# Altium integrated library AVR.IntLib: 157 symbols (part 3 of 3)
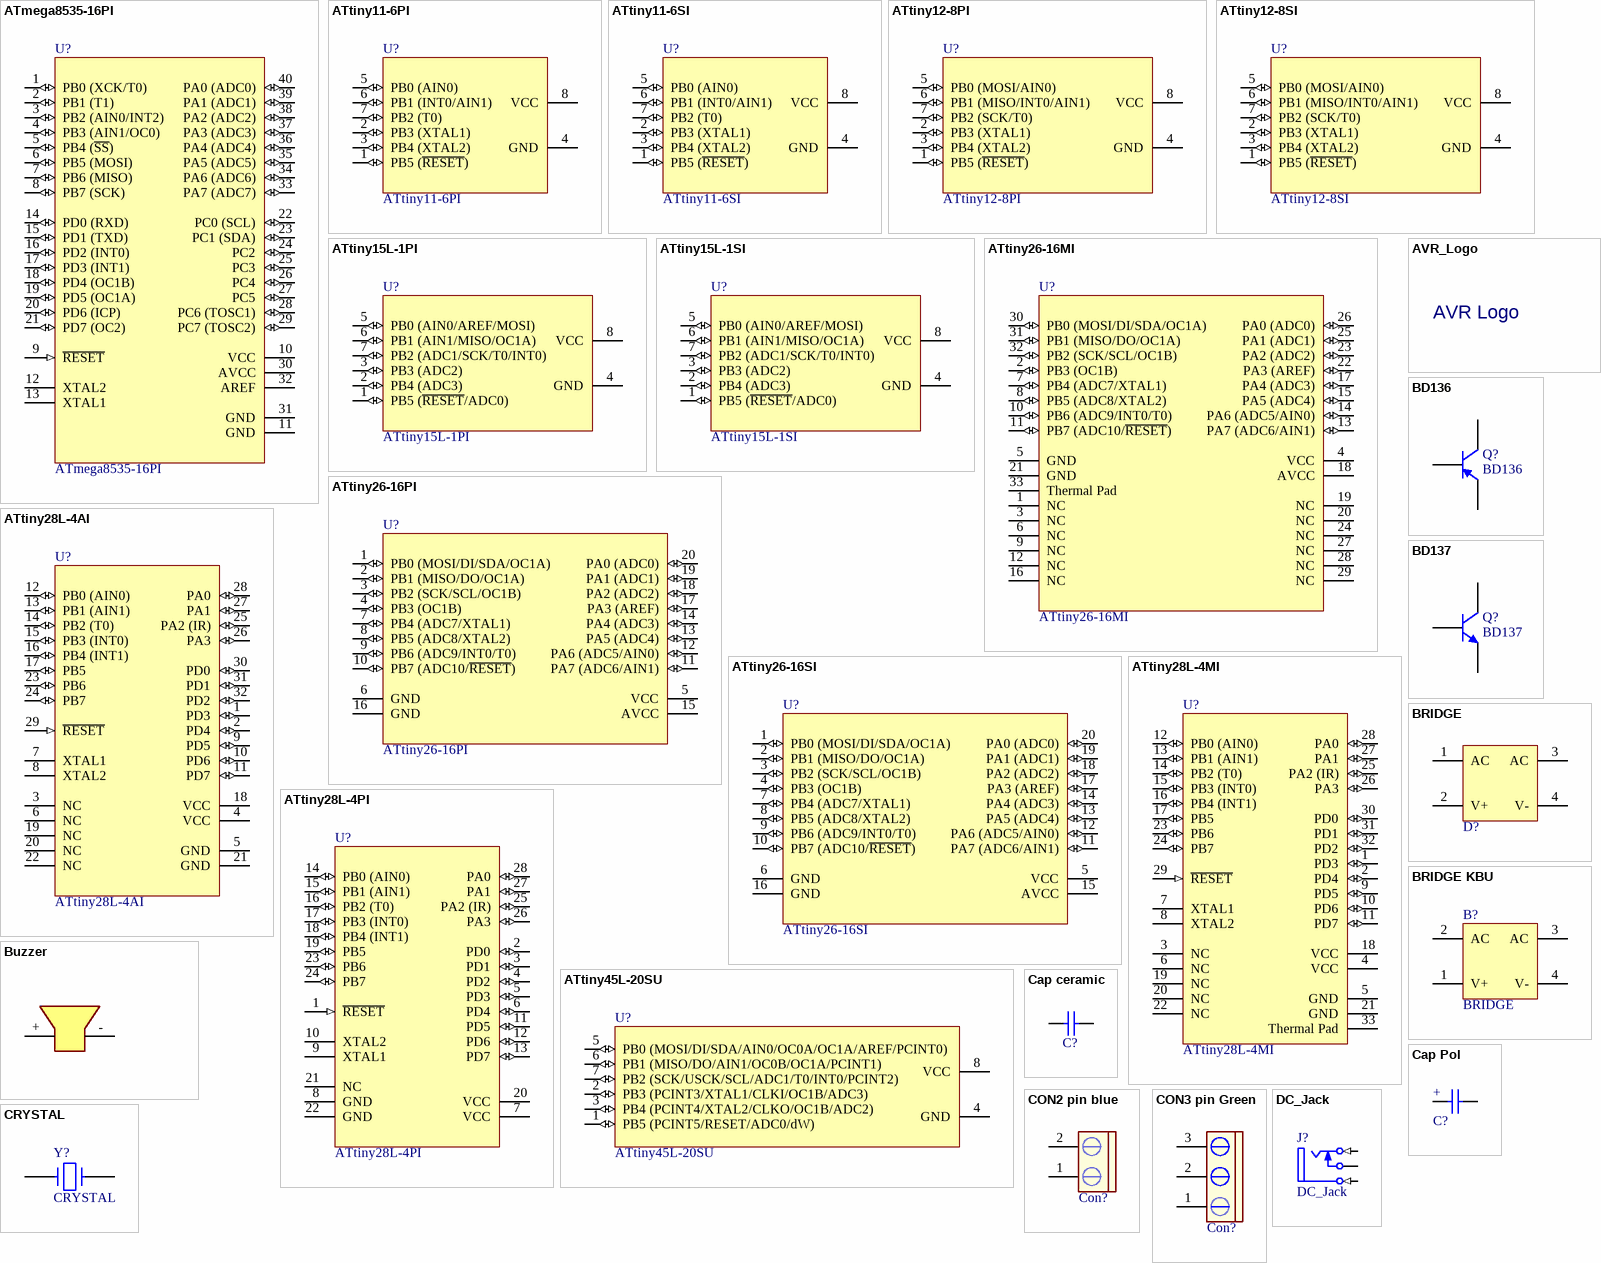
[diagram p11: symbols ATmega8535-16PI to DC_Jack]

## ATtiny45L-20SU
designator U?
AVR 4K Bytes of In-System Programmable Flash Memory; Published: 17-Sep-2003; LatestRevisionDate: 13-Apr-2006; LatestRevisionNote: IPC-7351 Footprint Added.; DatasheetVersion: 1187E-AVR-06/02; PackageVersion: revB, May-2002; PackageReference: 8S2; Publisher: Altium Limited; PackageDescription: 8-Pin Small Outline Package 1.27 mm Pitch; ComponentLink1Description: Manufacturer Link; ComponentLink1URL: http://www.atmel.com; ComponentLink2Description: Datasheet; ComponentLink2URL: http://www.atmel.com/dyn/resources/prod_documents/doc1187.pdf
footprint My_SOIC_P8 (SOIC, 8-Leads, Body 5.3x5.2mm (max), Pitch 1.27mm, IPC Medium Density)
3D model 8S2 (PCB3D Model)
pins: 1 PB5 (PCINT5/RESET/ADC0/dW)  (io), 2 PB3 (PCINT3/XTAL1/CLKI/OC1B/ADC3)  (io), 3 PB4 (PCINT4/XTAL2/CLKO/OC1B/ADC2)  (io), 4 GND (power), 5 PB0 (MOSI/DI/SDA/AIN0/OC0A/OC1A/AREF/PCINT0) (io), 6 PB1 (MISO/DO/AIN1/OC0B/OC1A/PCINT1) (io), 7 PB2 (SCK/USCK/SCL/ADC1/T0/INT0/PCINT2) (io), 8 VCC (power)

## AVR_Logo
designator U?, comment AVR logo
footprint MY_AVR_Logo_0
footprint MY_AVR_Logo_1
footprint MY_AVR_Logo_2
footprint MY_AVR_Logo_3
footprint MY_AVR_Logo_4
footprint MY_AVR_Logo_5
text: AVR Logo

## BD136
designator Q?
Darlington transistor
footprint My_TO126
pins: B, C, E

## BD137
designator Q?
Darlington transistor
footprint My_TO126
pins: B, C, E

## BRIDGE
designator D?  (value not drawn)
Diode Bridge 1 Amp
footprint My_bridg
pins: 1 AC, 2 V+, 3 AC, 4 V-

## BRIDGE KBU
designator B?, comment BRIDGE
BRIDGE KBU 6 Amp
footprint My_KBU
pins: 1 V+ (power), 2 AC, 3 AC, 4 V- (power)

## Buzzer
designator U?, comment Buzzer small
5-12v small buzzer (12mm)
footprint My_Buzzer
pins: + 1 (power), - 2 (power)

## Cap ceramic
designator C?, comment Cap  (value not drawn)
CAP-100Nf; Value: 100nF
footprint My_cap100n
pins: 1, 2

## Cap Pol
designator C?, comment Cap  (value not drawn)
CAP-3300Uf; Value: 3300u
footprint My_cap3300u
footprint MY_Cap1000u
pins: +, -

## CON2 pin blue
designator Con?  (value not drawn)
Connector blue screw
footprint My_CN2
pins: 1, 2

## CON3 pin Green
designator Con?  (value not drawn)
Connector green screw
footprint My_CN3
pins: 1, 2, 3

## CRYSTAL
designator Y?
footprint My_Crystal
pins: 1, 2

## DC_Jack
designator J?
PackageDocument: 2003; PCB_Layout: Complies with manufacturer's recommendation.; DrillAndSlotSize: Corresponds to nominal value.; LatestRevisionDate: 15-Jul-2004; LatestRevisionNote: Component Replaced & renamed from "Phonejack".; DatasheetDocument: 2003; PackageReference: S1VS_SNB; Publisher: Altium Limited; ComponentLink1Description: Manufacturer Link; ComponentLink1URL: http://www.cliffuk.co.uk/
footprint My_DC_Jack
signal-integrity model JACK Socket
pins: 1 T (in) "Tip", 2 TN "Tip Normal (Break Contact)", 3 S (in) "Sleeve (Ground)"

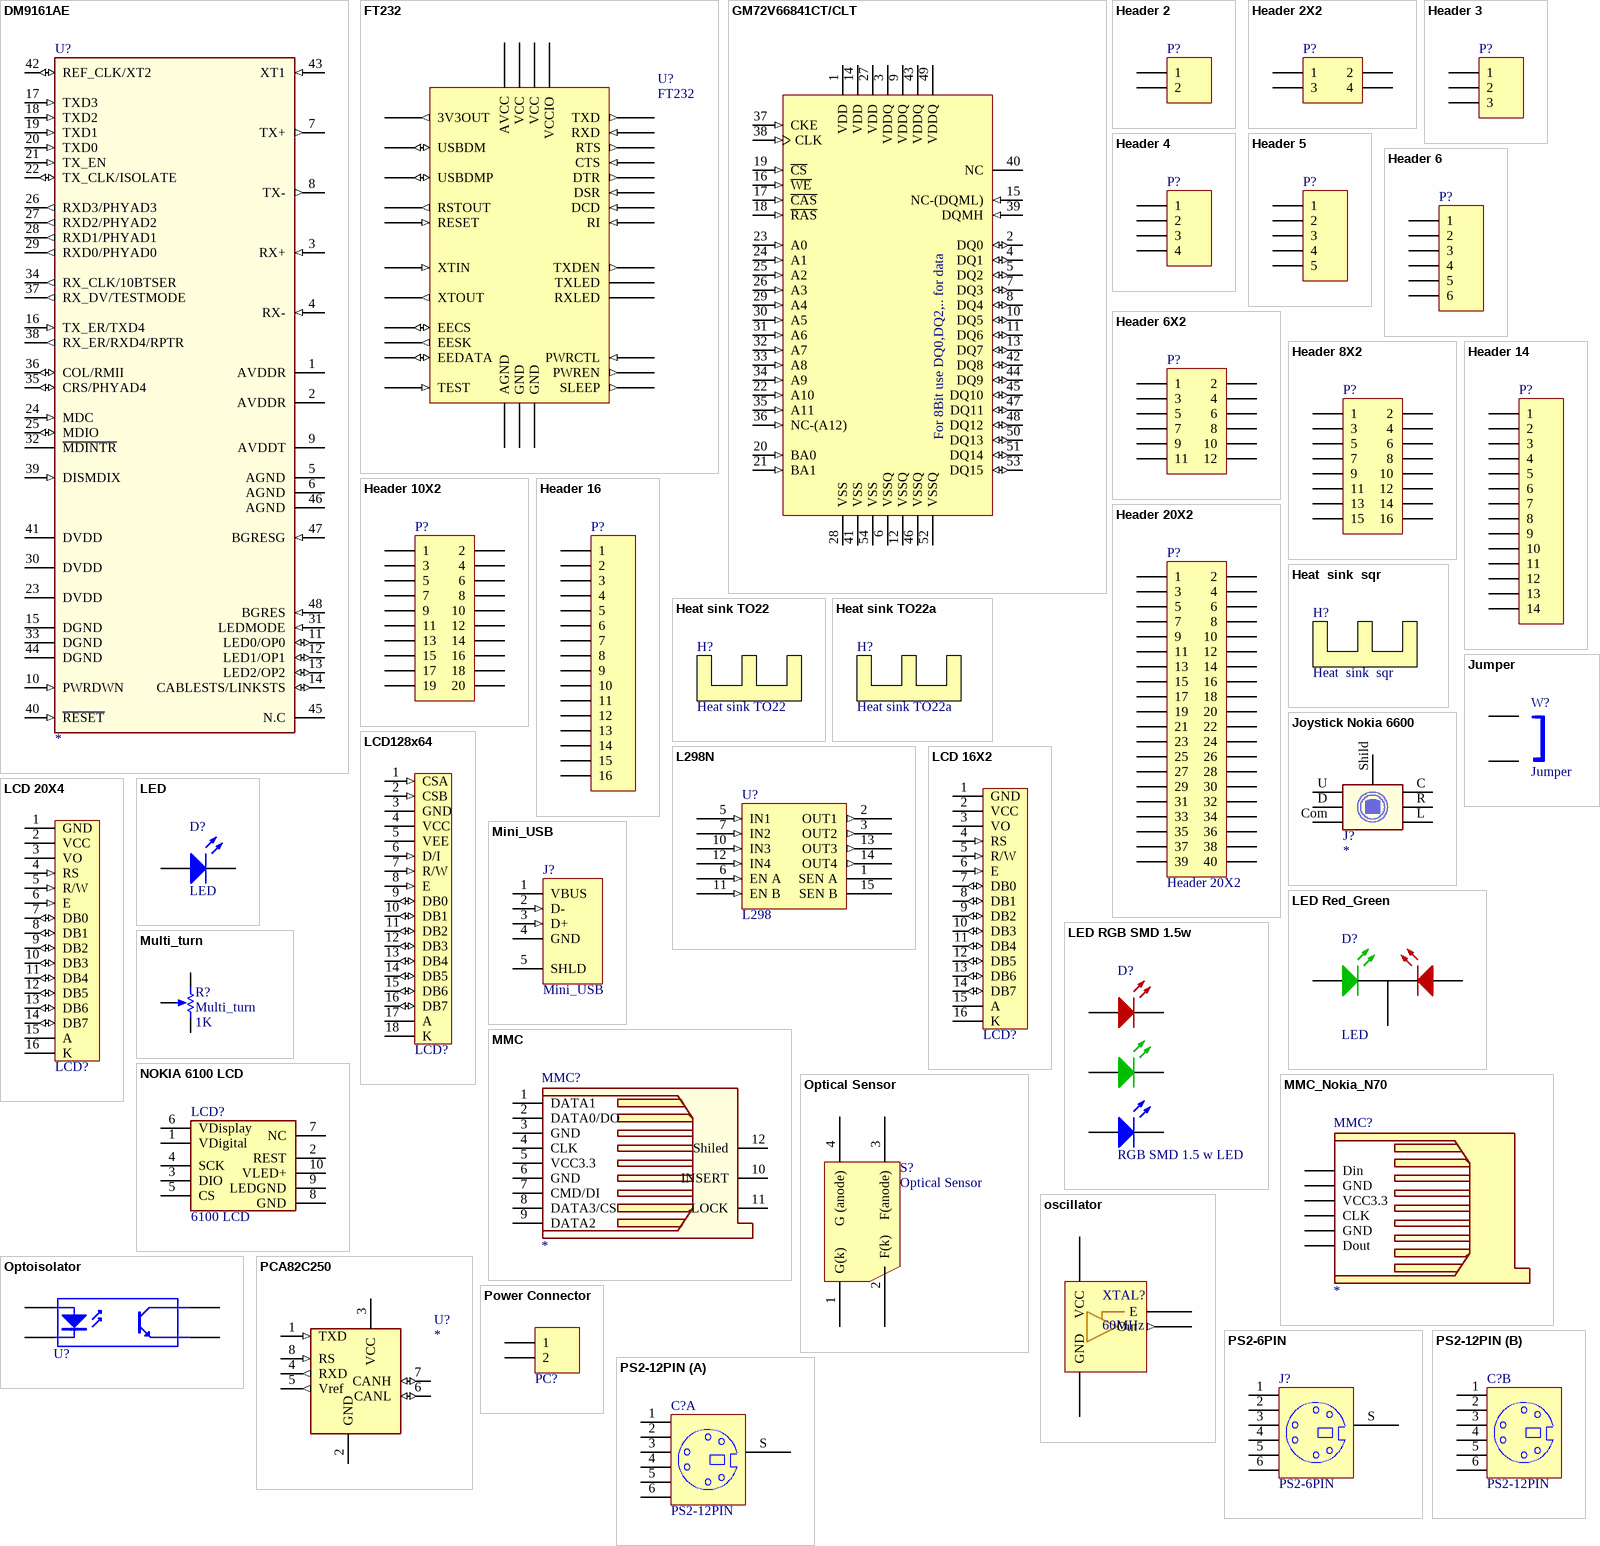
[diagram p8: symbols DM9161AE to PS2-12PIN]

## DM9161AE
designator U?
Ethernet PHY
footprint MY_LQFP48 (TSQFP, 48-Leads, Body 9.0x9.0mm (max), Pitch 0.50mm, IPC Medium Density)
3D model AT90C8534-48A (PCB3D Model)
pins: 1 AVDDR (power), 2 AVDDR (power), 3 RX+ (in), 4 RX- (in), 5 AGND (power), 6 AGND (power), 7 TX+ (out), 8 TX- (out), 9 AVDDT (power), 10 PWRDWN (in), 11 LED0/OP0 (io), 12 LED1/OP1 (io), 13 LED2/OP2 (io), 14 CABLESTS/LINKSTS (io), 15 DGND (power), 16 TX_ER/TXD4 (in), 17 TXD3 (in), 18 TXD2 (in), 19 TXD1 (in), 20 TXD0 (in), 21 TX_EN (in), 22 TX_CLK/ISOLATE (io), 23 DVDD (power), 24 MDC (in), 25 MDIO (io), 26 RXD3/PHYAD3 (out), 27 RXD2/PHYAD2 (out), 28 RXD1/PHYAD1 (out), 29 RXD0/PHYAD0 (out), 30 DVDD (power), 31 LEDMODE (in), 32 ~{MDINTR} (hiz), 33 DGND (power), 34 RX_CLK/10BTSER (out), 35 CRS/PHYAD4 (io), 36 COL/RMII (io), 37 RX_DV/TESTMODE (out), 38 RX_ER/RXD4/RPTR (out), 39 DISMDIX (in), 40 ~{RESET} (in), 41 DVDD (power), 42 REF_CLK/XT2 (io), 43 XT1 (in), 44 DGND (power), 45 N.C, 46 AGND (power), 47 BGRESG (in), 48 BGRES (in)

## FT232
designator U?
USB to RS232 Convertor
footprint My_TQFP-32
3D model ATMEGA8-32A (PCB3D Model)
pins: 1 EESK (out), 2 EEDATA (io), 3 VCC (power), 4 RESET (in), 5 RSTOUT (out), 6 3V3OUT (out), 7 USBDMP (io), 8 USBDM (io), 9 GND (power), 10 SLEEP (out), 11 RXLED (oc), 12 TXLED (oc), 13 VCCIO (power), 14 PWRCTL (in), 15 PWREN (out), 16 TXDEN (out), 17 GND (power), 18 RI (in), 19 DCD (in), 20 DSR (in), 21 DTR (out), 22 CTS (in), 23 RTS (out), 24 RXD (in), 25 TXD (out), 26 VCC (power), 27 XTIN (in), 28 XTOUT (out), 29 AGND (power), 30 AVCC (power), 31 TEST (in), 32 EECS (io)

## GM72V66841CT/CLT
designator U?
2,097,152 WORD x 8 BIT x 4 BANK  SYNCHRONOUS DYNAMIC RAM
footprint MY_TSOP_54
pins: 1 VDD (power) "Power Supply", 2 DQ0 (io) "Data Input/Output 0", 3 VDDQ (power) "DQ Power", 4 DQ1 (io) "Data Input/Output 1", 5 DQ2 (io) "Data Input/Output 2", 6 VSSQ (power) "DQ Ground", 7 DQ3 (io) "Data Input/Output 3", 8 DQ4 (io) "Data Input/Output 4", 9 VDDQ (power) "DQ Power", 10 DQ5 (io) "Data Input/Output 5", 11 DQ6 (io) "Data Input/Output 6", 12 VSSQ (power) "DQ Ground", 13 DQ7 (io) "Data Input/Output 7", 14 VDD (power) "Power Supply", 15 NC-(DQML) (in) "Input/Output Mask for DQ0-DQ7", 16 ~{WE} (in) "Command Input", 17 ~{CAS} (in) "Command Input", 18 ~{RAS} (in) "Command Input", 19 ~{CS} (in) "Chip Select", 20 BA0 (in) "Bank Address Input 0", 21 BA1 (in) "Bank Address Input 1", 22 A10 (in) "Address Input 10", 23 A0 (in) "Address Input 0", 24 A1 (in) "Address Input 1", 25 A2 (in) "Address Input 2", 26 A3 (in) "Address Input 3", 27 VDD (power) "Power Supply", 28 VSS (power) "Ground", 29 A4 (in) "Address Input 4", 30 A5 (in) "Address Input 5", 31 A6 (in) "Address Input 6", 32 A7 (in) "Address Input 7", 33 A8 (in) "Address Input 8", 34 A9 (in) "Address Input 9", 35 A11 (in) "Address Input 11", 36 NC-(A12) (in) "Address Input 12", 37 CKE (in) "Clock Enable", 38 CLK (in) "Clock", 39 DQMH (in) "Input/Output Mask for DQ8-DQ15", 40 NC "No Connect", 41 VSS (power) "Ground", 42 DQ8 (io) "Data Input/Output 8", 43 VDDQ (power) "DQ Power", 44 DQ9 (io) "Data Input/Output 9", 45 DQ10 (io) "Data Input/Output 10", 46 VSSQ (power) "DQ Ground", 47 DQ11 (io) "Data Input/Output 11", 48 DQ12 (io) "Data Input/Output 12", 49 VDDQ (power) "DQ Power", 50 DQ13 (io) "Data Input/Output 13", 51 DQ14 (io) "Data Input/Output 14", 52 VSSQ (power) "DQ Ground", 53 DQ15 (io) "Data Input/Output 15", 54 VSS (power) "Ground"
text: For 8Bit use DQ0,DQ2,.. for data

## Header 2
designator P?  (value not drawn)
Header, 2-Pin; LatestRevisionDate: 17-Jul-2002; LatestRevisionNote: Re-released for DXP Platform.; Publisher: Altium Limited
footprint My_1X02
signal-integrity model Connector
pins: 1, 2

## Header 2X2
designator P?  (value not drawn)
Header, 2-Pin, Dual row; LatestRevisionDate: 17-Jul-2002; LatestRevisionNote: Re-released for DXP Platform.; Publisher: Altium Limited
footprint My_2X02
signal-integrity model Connector
pins: 1, 2, 3, 4

## Header 3
designator P?  (value not drawn)
Header, 3-Pin; LatestRevisionDate: 17-Jul-2002; LatestRevisionNote: Re-released for DXP Platform.; Publisher: Altium Limited
footprint My_1X03
signal-integrity model Connector
pins: 1, 2, 3

## Header 4
designator P?  (value not drawn)
Header, 4-Pin; LatestRevisionDate: 17-Jul-2002; LatestRevisionNote: Re-released for DXP Platform.; Publisher: Altium Limited
footprint My_1X04
signal-integrity model Connector
pins: 1, 2, 3, 4

## Header 5
designator P?  (value not drawn)
Header, 5-Pin; LatestRevisionDate: 17-Jul-2002; LatestRevisionNote: Re-released for DXP Platform.; Publisher: Altium Limited
footprint My_1X05
signal-integrity model Connector
pins: 1, 2, 3, 4, 5

## Header 6
designator P?  (value not drawn)
Header, 6-Pin; LatestRevisionDate: 17-Jul-2002; LatestRevisionNote: Re-released for DXP Platform.; Publisher: Altium Limited
footprint My_1X06
signal-integrity model Connector
pins: 1, 2, 3, 4, 5, 6

## Header 6X2
designator P?  (value not drawn)
Header, 6-Pin, Dual row; LatestRevisionDate: 17-Jul-2002; LatestRevisionNote: Re-released for DXP Platform.; Publisher: Altium Limited
footprint My_2X06
signal-integrity model Connector
pins: 1, 2, 3, 4, 5, 6, 7, 8, 9, 10, 11, 12

## Header 8X2
designator P?  (value not drawn)
Header, 8-Pin, Dual row; LatestRevisionDate: 17-Jul-2002; LatestRevisionNote: Re-released for DXP Platform.; Publisher: Altium Limited
footprint My_2X08
signal-integrity model Connector
pins: 1, 2, 3, 4, 5, 6, 7, 8, 9, 10, 11, 12, 13, 14, 15, 16

## Header 10X2
designator P?  (value not drawn)
Header, 10-Pin, Dual row; LatestRevisionDate: 17-Jul-2002; LatestRevisionNote: Re-released for DXP Platform.; Publisher: Altium Limited
footprint My_2X10
signal-integrity model Connector
pins: 1, 2, 3, 4, 5, 6, 7, 8, 9, 10, 11, 12, 13, 14, 15, 16, 17, 18, 19, 20

## Header 14
designator P?  (value not drawn)
Header, 14-Pin; LatestRevisionDate: 17-Jul-2002; LatestRevisionNote: Re-released for DXP Platform.; Publisher: Altium Limited
footprint My_1X14
signal-integrity model Connector
pins: 1, 2, 3, 4, 5, 6, 7, 8, 9, 10, 11, 12, 13, 14

## Header 16
designator P?  (value not drawn)
Header, 16-Pin; LatestRevisionDate: 17-Jul-2002; LatestRevisionNote: Re-released for DXP Platform.; Publisher: Altium Limited
footprint My_1X16
signal-integrity model Connector
pins: 1, 2, 3, 4, 5, 6, 7, 8, 9, 10, 11, 12, 13, 14, 15, 16

## Header 20X2
designator P?
Header, 20-Pin, Dual row; LatestRevisionDate: 17-Jul-2002; LatestRevisionNote: Re-released for DXP Platform.; Publisher: Altium Limited
signal-integrity model Connector
footprint My_IDCM40
footprint My_IDCM40A
footprint My_IDCRM40
pins: 1, 2, 3, 4, 5, 6, 7, 8, 9, 10, 11, 12, 13, 14, 15, 16, 17, 18, 19, 20, 21, 22, 23, 24, 25, 26, 27, 28, 29, 30, 31, 32, 33, 34, 35, 36, 37, 38, 39, 40

## Heat  sink  sqr
designator H?
Heat sink sqr
footprint My_Heat_sink_sqr

## Heat sink TO22
designator H?
Heat sink for TO22
footprint My_Heat_sink_TO22

## Heat sink TO22a
designator H?
Heat sink for TO22
footprint My_Heat_sink_TO22a

## Joystick Nokia 6600
designator J?
Joystick keypad
footprint MY_6600_Joystick
pins: C, Com C, D, L, R, Shild, U

## Jumper
designator W?
Jumper Wire; Manufacturer: Generic Components; Published: 1999
footprint My_IDC-2
pins: 1, 2

## L298N
designator U?, comment L298
Dual Full Bridge Driver; Text Field1: TAB CONNECTED TO PIN 8.
footprint My_ZIP-15V
pins: 1 SEN A, 2 OUT1 (out), 3 OUT2 (out), 4 VS (power) hidden to VS, 5 IN1 (in), 6 EN A (in), 7 IN2 (in), 8 GND (power) hidden to GND, 9 VSS (power) hidden to VSS, 10 IN3 (in), 11 EN B (in), 12 IN4 (in), 13 OUT3 (out), 14 OUT4 (out), 15 SEN B

## LCD128x64
designator LCD?, comment LCD 128X64  (value not drawn)
Graphic LCD with KS108 Controller
footprint My_LCD128x64
pins: 1 CSA (in), 2 CSB (in), 3 GND (power), 4 VCC (power), 5 VEE (power), 6 D/I (in), 7 R/W (in), 8 E (in), 9 DB0 (io), 10 DB1 (io), 11 DB2 (io), 12 DB3 (io), 13 DB4 (io), 14 DB5 (io), 15 DB6 (io), 16 DB7 (io), 17 A, 18 K

## LCD 16X2
designator LCD?  (value not drawn)
LCD 16X2 Character lcd
footprint My_LCD 16x2-A
pins: 1 GND (power), 2 VCC (power), 3 VO, 4 RS (in), 5 R/W (in), 6 E (in), 7 DB0 (io), 8 DB1 (io), 9 DB2 (io), 10 DB3 (io), 11 DB4 (io), 12 DB5 (io), 13 DB6 (io), 14 DB7 (io), 15 A, 16 K

## LCD 20X4
designator LCD?  (value not drawn)
LCD 20X4 Character lcd
footprint My_LCD 20x4-A
footprint My_LCD 20x4-B
pins: 1 GND (power), 2 VCC (power), 3 VO, 4 RS (in), 5 R/W (in), 6 E (in), 7 DB0 (io), 8 DB1 (io), 9 DB2 (io), 10 DB3 (io), 11 DB4 (io), 12 DB5 (io), 13 DB6 (io), 14 DB7 (io), 15 A, 16 K

## LED
designator D?
Typical INFRARED GaAs LED; Published: 8-Jun-2000; LatestRevisionDate: 08-Jul-2005; LatestRevisionNote: Mech Layer 1 removed.; Publisher: Altium Limited
footprint My_LED3MM
footprint MY_LED5MM
pins: A, K

## LED Red_Green
designator D?, comment LED
Typical INFRARED GaAs LED; Published: 8-Jun-2000; LatestRevisionDate: 08-Jul-2005; LatestRevisionNote: Mech Layer 1 removed.; Publisher: Altium Limited
footprint My_DUOLED5MM
pins: AG, AR, K

## LED RGB SMD 1.5w
designator D?, comment RGB SMD 1.5 w LED
Enhanced Power RGB LED
footprint MY_RGB_SMD_1.5w
pins: AB A, AG A, AR A, KB K, KG K, KR K

## Mini_USB
designator J?
USB 2.0, Right Angle, SMT, B Type, Receptacle, 5 Position, Black; ContactMaterial: Copper Alloy; ContactPlating: Gold (30); PCB_Layout: Complies with manufacturer's recommendation.; DrillSize: Corresponds to nominal value.; PanelGround: Without; Published: 15-Jul-2004; DatasheetDocument: 27-Jun-2003; PackageDocument: 27-Jun-2003; PackageReference: 440247; Publisher: Altium Limited; HousingMaterial: Thermoplastic; ComponentLink1Description: Manufacturer Link; ComponentLink1URL: http://www.tycoelectronics.com/; ComponentLink2Description: Packaging Specification; ComponentLink2URL: http://ecommas.tycoelectronics.com/commerce/DocumentDelivery/DDEController?Action=showdoc&DocId=Customer+Drawing%7F440247%7FD%7Fpdf%7FEnglish%7FC_440247_D.pdf
footprint My_USB
signal-integrity model USB2.0
pins: 1 VBUS (power) "Power", 2 D- (in) "-DATA", 3 D+ (in) "+DATA", 4 GND (power) "Ground", 5 SHLD "Shield"

## MMC
designator MMC?
MMC/SD Card
footprint MY_MMC
footprint MY_SD-MMC_SOCKET-PP
footprint MY_SD_MMC
pins: 1 DATA1, 2 DATA0/DO, 3 GND, 4 CLK, 5 VCC3.3, 6 GND, 7 CMD/DI, 8 DATA3/CS, 9 DATA2, 10 INSERT, 11 LOCK, 12 Shiled

## MMC_Nokia_N70
designator MMC?
MMC/SD Card
footprint MY_Nokia_N70_MMC
pins: 2 Din, 3 GND, 4 VCC3.3, 5 CLK, 6 GND, 7 Dout

## Multi_turn
designator R?  value 1K
Potentiometer; Sim Note: Enter the Resistance value and the set point into parameter fields.; Set Position: 0.5; Published: 8-Jun-2000; LatestRevisionDate: 17-Jul-2002; LatestRevisionNote: Re-released for DXP Platform.; PackageReference: VR5; Publisher: Altium Limited
footprint My_Pot_trim
simulation model POT (Potentiometer)
pins: 1 TOP, 2 BOT, 3 TAP
1 alternate drawing of the same symbol

## NOKIA 6100 LCD
designator LCD?, comment 6100 LCD
NOKIA 6100 LCD
footprint MY_NOKIA6100_LCD
pins: 1 VDigital, 2 REST, 3 DIO, 4 SCK, 5 CS, 6 VDisplay, 7 NC, 8 GND, 9 LEDGND, 10 VLED+

## Optical Sensor
designator S?
photo leflector on floor
footprint My_SNS 4
pins: 1 G(k), 2 F(k), 3 F(anode), 4 G (anode)

## Optoisolator
designator U?  (value not drawn)
footprint My_opto
pins: 1 A, 2 K, 3 C, 4 E

## oscillator
designator XTAL?, comment 60MHz
Standard crystal oscillator 14-DIL; Value: 60MHz
footprint MY_oscillator
pins: 1 E, 7 GND (power), 8 Out (out), 14 VCC (power)

## PCA82C250
designator U?
CAN controller interface
footprint My_8S2_M
3D model 8S2 (PCB3D Model)
pins: 1 TXD (in), 2 GND (power), 3 VCC (power), 4 RXD (out), 5 Vref (out), 6 CANL (io), 7 CANH (io), 8 RS (in)

## Power Connector
designator PC?  (value not drawn)
white Power Connector
footprint My_ Power_Connector
pins: 1, 2

## PS2-6PIN
designator J?
6 Pin Through Hole PS2 Socket (Kycon P/N); Published: 17-Dec-2003; Publisher: Altium Limited; ComponentLink1Description: Manufacturer Link; ComponentLink1URL: http://www.oupiin.com/prodindx.html#Headers
footprint My_PS2-6PIN
signal-integrity model Connector
pins: 1, 2, 3, 4, 5, 6, S

## PS2-12PIN
designator C?
12 Pin Through Hole PS2 Socket (
footprint My_PS2_2
part A pins: 1, 2, 3, 4, 5, 6, S
part B pins: 7 1, 8 2, 9 3, 10 4, 11 5, 12 6

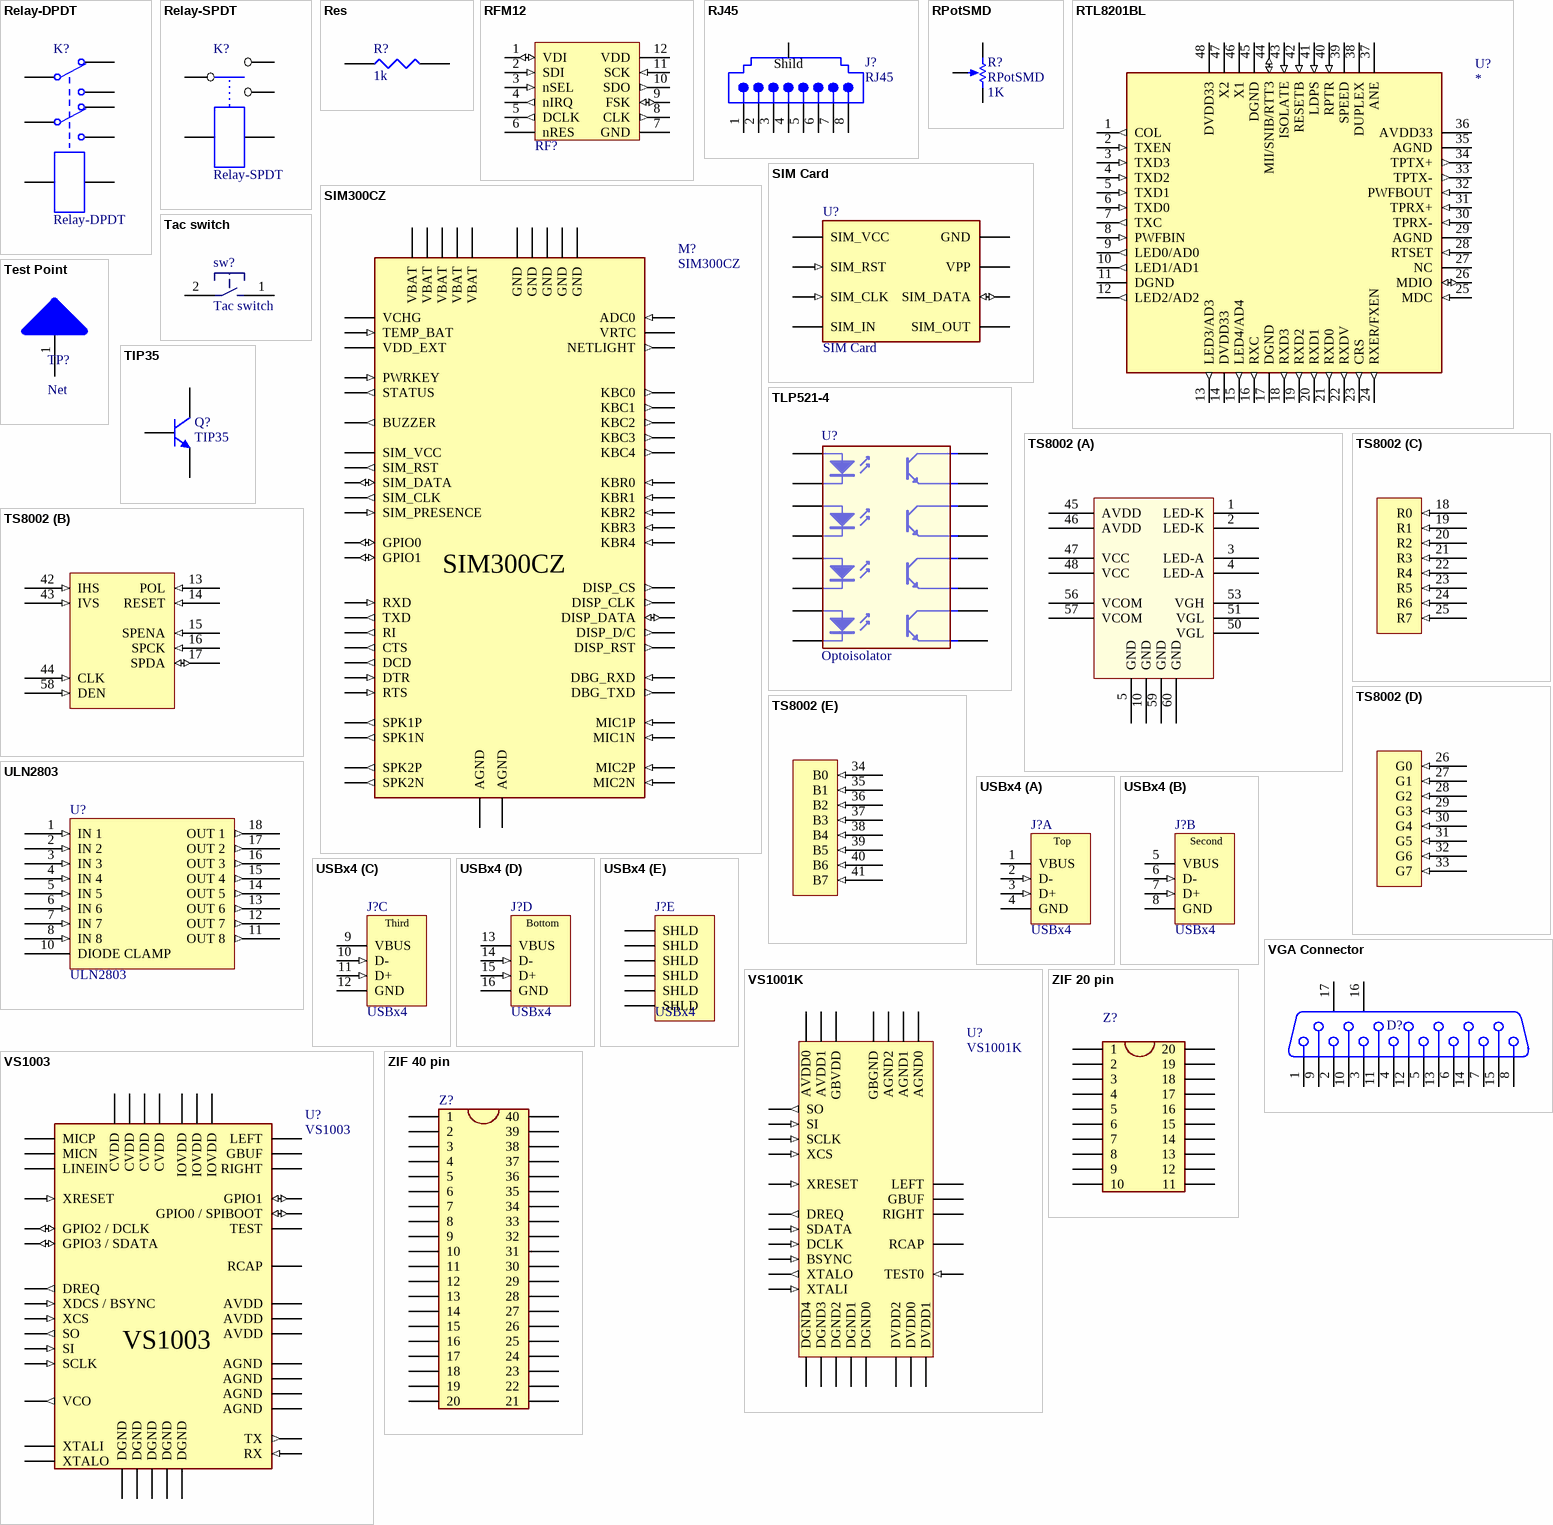
[diagram p9: symbols Relay-DPDT to ZIF 40 pin]

## Relay-DPDT
designator K?
Dual-Pole Dual-Throw Relay; Published: 24-Mar-1999; LatestRevisionDate: 17-Jul-2002; LatestRevisionNote: Re-released for DXP Platform.; PackageReference: DIP-P8; Publisher: Altium Limited
footprint My_REL_cochick
pins: 1, 2, O1, O2, P1, P2, S1, S2

## Relay-SPDT
designator K?
standard single contact relay
footprint My_rel
pins: 1, 2, 3, 4, 5

## Res
designator R?, comment 1k
resistor 1/4 wat; Value: 1k
footprint My_axial-0.4
pins: 1, 2

## RFM12
designator RF?  (value not drawn)
Universal ISM Band FSK Transceiver Module
footprint My_RFM12 (RFM12 Transceiver)
pins: 1 VDI (io), 2 SDI (in), 3 nSEL (in), 4 nIRQ (out), 5 DCLK (out), 6 nRES, 7 GND (power), 8 CLK (out), 9 FSK (io), 10 SDO (out), 11 SCK (in), 12 VDD (power)

## RJ45
designator J?
Right Angle, Standard Profile, RJ45-Keyed, Flange Mount PCB Jack; Ports: 1; Positions/Loaded: Port1 - 8 Keyed/8; PerformanceCategory: 3; PCB_Mounting: Thru-Hole; ComponentAvailability: Obsolete; DrillSize: Nominal, Rounded to nearest 0.05mm; PCB_Layout: Complies with Manufacturer's Recommendation.; Published: 25-Jun-2002; DatasheetDocument: 18-Dec-2001; PackageDocument: 18-Dec-2001; PackageReference: 15-43-6233; Publisher: Altium Limited; ComponentLink1Description: Manufacturer Link; ComponentLink1URL: http://www.molex.com/; ComponentLink2Description: Datasheet; ComponentLink2URL: http://www.molex.com/cmc_upload/common_files/1212003_catalogmx41314.pdf; ComponentLink3Description: Iges Model; ComponentLink3URL: http://www.molex.com/pdm_docs/igs/15-43-6233_igs.zip
footprint My_RJ45
signal-integrity model Modular Jack
pins: 1, 2, 3, 4, 5, 6, 7, 8, shild Shild

## RPotSMD
designator R?  value 1K
Potentiometer; Sim Note: Enter the Resistance value and the set point into parameter fields.; Set Position: 0.5; Published: 8-Jun-2000; LatestRevisionDate: 17-Jul-2002; LatestRevisionNote: Re-released for DXP Platform.; PackageReference: VR5; Publisher: Altium Limited
footprint My_Pot
simulation model POT (Potentiometer)
footprint MY_TRIM_POT
pins: 1 TOP, 2 BOT, 3 TAP
1 alternate drawing of the same symbol

## RTL8201BL
designator U?
SINGLE PORT 10/100M  FAST ETHERNET PHYCEIVER
footprint MY_LQFP48 (TSQFP, 48-Leads, Body 9.0x9.0mm (max), Pitch 0.50mm, IPC Medium Density)
3D model AT90C8534-48A (PCB3D Model)
pins: 1 COL (out), 2 TXEN (in), 3 TXD3 (in), 4 TXD2 (in), 5 TXD1 (in), 6 TXD0 (in), 7 TXC (out), 8 PWFBIN (in), 9 LED0/AD0 (out), 10 LED1/AD1 (out), 11 DGND (power), 12 LED2/AD2 (out), 13 LED3/AD3 (out), 14 DVDD33 (power), 15 LED4/AD4 (out), 16 RXC (out), 17 DGND (power), 18 RXD3 (out), 19 RXD2 (out), 20 RXD1 (out), 21 RXD0 (out), 22 RXDV (out), 23 CRS (out), 24 RXER/FXEN (out), 25 MDC (in), 26 MDIO (io), 27 NC (power), 28 RTSET (in), 29 AGND (power), 30 TPRX- (in), 31 TPRX+ (in), 32 PWFBOUT (in), 33 TPTX- (out), 34 TPTX+ (out), 35 AGND (power), 36 AVDD33 (power), 37 ANE (power), 38 DUPLEX (power), 39 SPEED (power), 40 RPTR (in), 41 LDPS (in), 42 RESETB (in), 43 ISOLATE (in), 44 MII/SNIB/RTT3 (io), 45 DGND (power), 46 X1, 47 X2, 48 DVDD33 (power)

## SIM300CZ
designator M?
GSM/GPRS Module
footprint MY_SIM300
pins: 1 VBAT (power), 2 GND (power), 3 VBAT (power), 4 GND (power), 5 VBAT (power), 6 GND (power), 7 VBAT (power), 8 GND (power), 9 VBAT (power), 10 GND (power), 11 VCHG (power), 12 ADC0 (in), 13 TEMP_BAT (in), 14 VRTC, 15 VDD_EXT, 16 NETLIGHT (out), 17 PWRKEY (in), 18 KBC0 (out), 19 STATUS (out), 20 KBC1 (out), 21 GPIO0 (io), 22 KBC2 (out), 23 BUZZER (out), 24 KBC3 (out), 25 SIM_VCC (power), 26 KBC4 (out), 27 SIM_RST (out), 28 KBR0 (in), 29 SIM_DATA (io), 30 KBR1 (in), 31 SIM_CLK (out), 32 KBR2 (in), 33 SIM_PRESENCE (in), 34 KBR3 (in), 35 GPIO1 (io), 36 KBR4 (in), 37 DCD (out), 38 DISP_CS (out), 39 DTR (in), 40 DISP_CLK (out), 41 RXD (in), 42 DISP_DATA (io), 43 TXD (out), 44 DISP_D/C (out), 45 RTS (in), 46 DISP_RST (out), 47 CTS (out), 48 DBG_RXD (in), 49 RI (out), 50 DBG_TXD (out), 51 AGND (power), 52 AGND (power), 53 SPK1P (out), 54 MIC1P (in), 55 SPK1N (out), 56 MIC1N (in), 57 SPK2P (out), 58 MIC2P (in), 59 SPK2N (out), 60 MIC2N (in)

## SIM Card
designator U?
footprint MY_SIMCARD
pins: C1 SIM_VCC (power), C2 SIM_RST (in), C3 SIM_CLK (in), C4 SIM_IN, C5 GND (power), C6 VPP, C7 SIM_DATA (io), C8 SIM_OUT

## Tac switch
designator sw?
small tac switch
footprint MY_TACTILE-PTH
footprint MY_TACTILE-PTH_4X
pins: 1, 2

## Test Point
designator TP?, comment Net
Test point
footprint MY_TestPin
pins: 1

## TIP35
designator Q?
power npn transistor
footprint My_TOP3
pins: B, C, E

## TLP521-4
designator U?, comment Optoisolator
4 Optoisolator's
footprint My_DIP-16
pins: 1 A, 2 K, 3 A, 4 K, 5 A, 6 K, 7 A, 8 K, 9 E, 10 C, 11 E, 12 C, 13 E, 14 C, 15 E, 16 C

## TS8002
designator TFT?  (value not drawn)
320x240  24bit parallel TFT lcd
footprint MY_TFT_60 (TS8002 TFT lcd)
part A pins: 1 LED-K (power), 2 LED-K (power), 3 LED-A (power), 4 LED-A (power), 5 GND (power), 10 GND (power), 45 AVDD, 46 AVDD, 47 VCC, 48 VCC, 50 VGL, 51 VGL, 53 VGH, 56 VCOM, 57 VCOM, 59 GND (power), 60 GND (power)
part B pins: 13 POL (in), 14 RESET (in), 15 SPENA (in), 16 SPCK (in), 17 SPDA (io), 42 IHS (in), 43 IVS (in), 44 CLK (in), 58 DEN (in)
part C pins: 18 R0 (in), 19 R1 (in), 20 R2 (in), 21 R3 (in), 22 R4 (in), 23 R5 (in), 24 R6 (in), 25 R7 (in)
part D pins: 26 G0 (in), 27 G1 (in), 28 G2 (in), 29 G3 (in), 30 G4 (in), 31 G5 (in), 32 G6 (in), 33 G7 (in)
part E pins: 34 B0 (in), 35 B1 (in), 36 B2 (in), 37 B3 (in), 38 B4 (in), 39 B5 (in), 40 B6 (in), 41 B7 (in)

## ULN2803
designator U?
HIGH-VOLTAGE,HIGH-CURRENT DARLINTON ARRAYS
footprint My_DIP-18
pins: 1 IN 1 (in), 2 IN 2 (in), 3 IN 3 (in), 4 IN 4 (in), 5 IN 5 (in), 6 IN 6 (in), 7 IN 7 (in), 8 IN 8 (in), 9 GND (power) hidden to GND, 10 DIODE CLAMP, 11 OUT 8 (out), 12 OUT 7 (out), 13 OUT 6 (out), 14 OUT 5 (out), 15 OUT 4 (out), 16 OUT 3 (out), 17 OUT 2 (out), 18 OUT 1 (out)

## USBx4
designator J?
USB 1.1, Right Angle, Thru-Hole, A Type, Receptacle, 4x4x4x4 Position, Fourfold Stacked, Black; ContactMaterial: Phosphor Bronze; ContactPlating: Gold (30) over Nickel (50); TerminationLength: 2.36mm [0.093in.]; PCB_Layout: Complies with manufacturer's recommendation.; DrillSize: Corresponds to nominal value.; PanelGround: Without; Published: 15-Jul-2004; DatasheetDocument: 30-Jul-2002; PackageDocument: 30-Jul-2002; PackageReference: 1470007; Publisher: Altium Limited; HousingMaterial: 30% Glass-Filled Thermoplastic; ComponentLink1Description: Manufacturer Link; ComponentLink1URL: http://www.tycoelectronics.com/; ComponentLink2Description: Packaging Specification; ComponentLink2URL: http://ecommas.tycoelectronics.com/commerce/DocumentDelivery/DDEController?Action=showdoc&DocId=Customer+Drawing%7F1470007%7FO%7Fpdf%7FEnglish%7FENG_CD_1470007_O.pdf
footprint My_USB_4
signal-integrity model USB1.1
part A pins: 1 VBUS (power) "Power", 2 D- (in) "-DATA", 3 D+ (in) "+DATA", 4 GND (power) "Ground"
part B pins: 5 VBUS (power) "Power", 6 D- (in) "-DATA", 7 D+ (in) "+DATA", 8 GND (power) "Ground"
part C pins: 9 VBUS (power) "Power", 10 D- (in) "-DATA", 11 D+ (in) "+DATA", 12 GND (power) "Ground"
part D pins: 13 VBUS (power) "Power", 14 D- (in) "-DATA", 15 D+ (in) "+DATA", 16 GND (power) "Ground"
part E pins: 17 SHLD "Shield", 18 SHLD "Shield", 19 SHLD "Shield", 20 SHLD "Shield", 21 SHLD "Shield", 22 SHLD "Shield"
part A text: Top
part B text: Second
part C text: Third
part D text: Bottom

## VGA Connector
designator D?  (value not drawn)
Standard VGA Connector
footprint MY_VGA
pins: 1, 2, 3, 4, 5, 6, 7, 8, 9, 10, 11, 12, 13, 14, 15, 16 MH1, 17 MH2

## VS1001K
designator U?
Mp3 decoder
footprint MY_LQFP48 (TSQFP, 48-Leads, Body 9.0x9.0mm (max), Pitch 0.50mm, IPC Medium Density)
pins: 3 XRESET (in), 4 DGND0 (power), 6 DVDD0 (power), 8 DREQ (out), 9 DCLK (in), 10 SDATA (in), 13 BSYNC (in), 14 DVDD1 (power), 16 DGND1 (power), 17 XTALO (out), 18 XTALI (in), 19 DVDD2 (power), 20 DGND2 (power), 21 DGND3 (power), 22 DGND4 (power), 23 XCS (in), 28 SCLK (in), 29 SI (in), 30 SO (out), 32 TEST0 (in), 37 AGND0 (power), 38 AVDD0 (power), 39 RIGHT, 40 AGND1 (power), 41 GBGND (power), 42 GBUF, 43 GBVDD (power), 44 RCAP, 45 AVDD1 (power), 46 LEFT, 47 AGND2 (power)

## VS1003
designator U?
MP3 Decoder
footprint MY_LQFP48 (TSQFP, 48-Leads, Body 9.0x9.0mm (max), Pitch 0.50mm, IPC Medium Density)
pins: 1 MICP, 2 MICN, 3 XRESET (in), 4 DGND (power), 5 CVDD (power), 6 IOVDD (power), 7 CVDD (power), 8 DREQ (out), 9 GPIO2 / DCLK (io), 10 GPIO3 / SDATA (io), 13 XDCS / BSYNC (in), 14 IOVDD (power), 15 VCO (out), 16 DGND (power), 17 XTALO, 18 XTALI, 19 IOVDD (power), 20 DGND (power), 21 DGND (power), 22 DGND (power), 23 XCS (in), 24 CVDD (power), 26 RX (in), 27 TX (out), 28 SCLK (in), 29 SI (in), 30 SO (out), 31 CVDD (power), 32 TEST, 33 GPIO0 / SPIBOOT (io), 34 GPIO1 (io), 37 AGND (power), 38 AVDD (power), 39 RIGHT, 40 AGND (power), 41 AGND (power), 42 GBUF, 43 AVDD (power), 44 RCAP, 45 AVDD (power), 46 LEFT, 47 AGND (power), 48 LINEIN

## ZIF 20 pin
designator Z?, comment ZIF Socket  (value not drawn)
footprint MY_ZIF20
pins: 1, 2, 3, 4, 5, 6, 7, 8, 9, 10, 11, 12, 13, 14, 15, 16, 17, 18, 19, 20

## ZIF 40 pin
designator Z?, comment ZIF Socket  (value not drawn)
footprint MY_ZIF40
pins: 1, 2, 3, 4, 5, 6, 7, 8, 9, 10, 11, 12, 13, 14, 15, 16, 17, 18, 19, 20, 21, 22, 23, 24, 25, 26, 27, 28, 29, 30, 31, 32, 33, 34, 35, 36, 37, 38, 39, 40